# EAGLE library part CD74HCT4053M96 (library 3, 2 to 1 muxes)
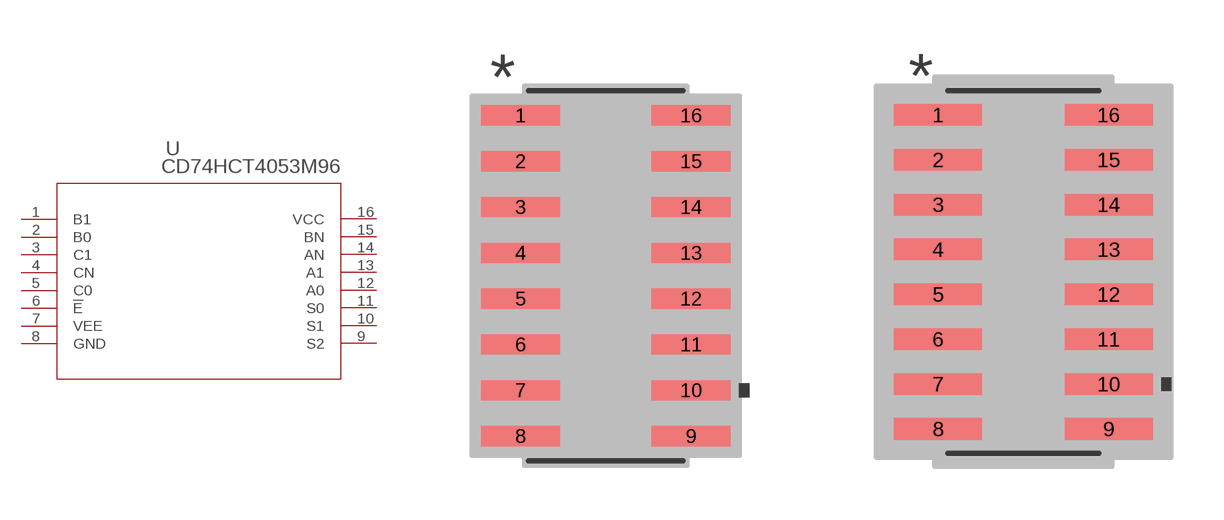
[diagram p0: symbol with the pads of D16; footprints D16, D16-M]

Designator prefix U

## CD74HCT4053M96 (MANUFACTURER_PART_NUMBER: CD74HCT4053M96; VENDOR: Texas Instruments)  [D16]
1  B1  pas
2  B0  pas
3  C1  pas
4  CN  pas
5  C0  pas
6  !E  pas
7  VEE  pwr
8  GND  pwr
9  S2  in
10  S1  in
11  S0  in
12  A0  pas
13  A1  pas
14  AN  pas
15  BN  pas
16  VCC  pwr

## CD74HCT4053M96D16-M (MANUFACTURER_PART_NUMBER: CD74HCT4053M96; VENDOR: Texas Instruments)  [D16-M]
Pads as for D16

## CD74HCT4053M96D16-L (MANUFACTURER_PART_NUMBER: CD74HCT4053M96; VENDOR: Texas Instruments)  [D16-L]
Pads as for D16

## Footprint D16 (pad centres in mm)
smd 2.184 x 0.559: 1 -2.362,4.445; 2 -2.362,3.175; 3 -2.362,1.905; 4 -2.362,0.635; 5 -2.362,-0.635; 6 -2.362,-1.905; 7 -2.362,-3.175; 8 -2.362,-4.445; 9 2.362,-4.445; 10 2.362,-3.175; 11 2.362,-1.905; 12 2.362,-0.635; 13 2.362,0.635; 14 2.362,1.905; 15 2.362,3.175; 16 2.362,4.445

## Footprint D16-M (pad centres in mm)
smd 2.489 x 0.61: 1 -2.413,4.445; 2 -2.413,3.175; 3 -2.413,1.905; 4 -2.413,0.635; 5 -2.413,-0.635; 6 -2.413,-1.905; 7 -2.413,-3.175; 8 -2.413,-4.445; 9 2.413,-4.445; 10 2.413,-3.175; 11 2.413,-1.905; 12 2.413,-0.635; 13 2.413,0.635; 14 2.413,1.905; 15 2.413,3.175; 16 2.413,4.445

## Footprint D16-L (pad centres in mm)
smd 1.88 x 0.508: 1 -2.311,4.445; 2 -2.311,3.175; 3 -2.311,1.905; 4 -2.311,0.635; 5 -2.311,-0.635; 6 -2.311,-1.905; 7 -2.311,-3.175; 8 -2.311,-4.445; 9 2.311,-4.445; 10 2.311,-3.175; 11 2.311,-1.905; 12 2.311,-0.635; 13 2.311,0.635; 14 2.311,1.905; 15 2.311,3.175; 16 2.311,4.445